# Altium schematic symbol library QRD1114.SchLib: 1 symbol
Pins are listed as number, name and electrical type; pins without a type are passive.

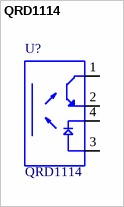
[diagram p0: symbol QRD1114]

## QRD1114
designator U?
Sensor Ã³ptico reflectante 0.050 _1.27 mm_ radial - 4 conductores; MF: ON Semiconductor; Digi-Key_Part_Number: QRD1114-ND; Package: Radial-4 ON Semiconductor; SnapEDA_Link: https://www.snapeda.com/parts/QRD1114/ON%20Semiconductor/view-part/2706462/?ref=snap; Digi-Key_Purchase_URL: https://www.digikey.com/product-detail/en/on-semiconductor/QRD1114/QRD1114-ND/187536?utm_source=snapeda&utm_medium=aggregator&utm_campaign=symbol; MP: QRD1114; Value: *
footprint *ONS_QRD1114
pins: 1 CT, 2 ET, 3 A, 4 C